# EAGLE library part BVEI302* (library hahn-transformer)
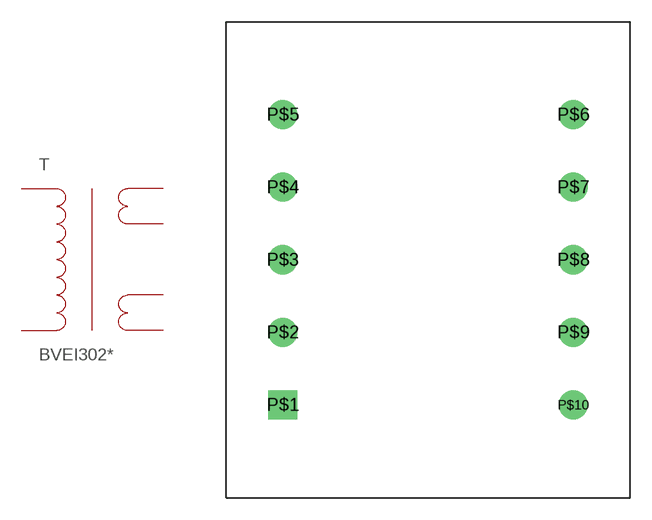
[diagram p0: symbol with the pads of EI30; footprint EI30]

Designator prefix T

## BVEI3022025  [EI30]
P$1  P1
P$5  P5
P$6  P6
P$7  P7
P$9  P9
P$10  P10

## Footprint EI30 (pad centres in mm)
drill 0.8 pad 2 square: P$1 0,0
drill 0.8 pad 2: P$2 0,5; P$3 0,10; P$4 0,15; P$5 0,20; P$6 20,20; P$7 20,15; P$8 20,10; P$9 20,5; P$10 20,0